# Altium schematic symbol library 7.PH XH VH KF2510连接器原理库.SchLib: 168 symbols
Pins are listed as number, name and electrical type; pins without a type are passive.

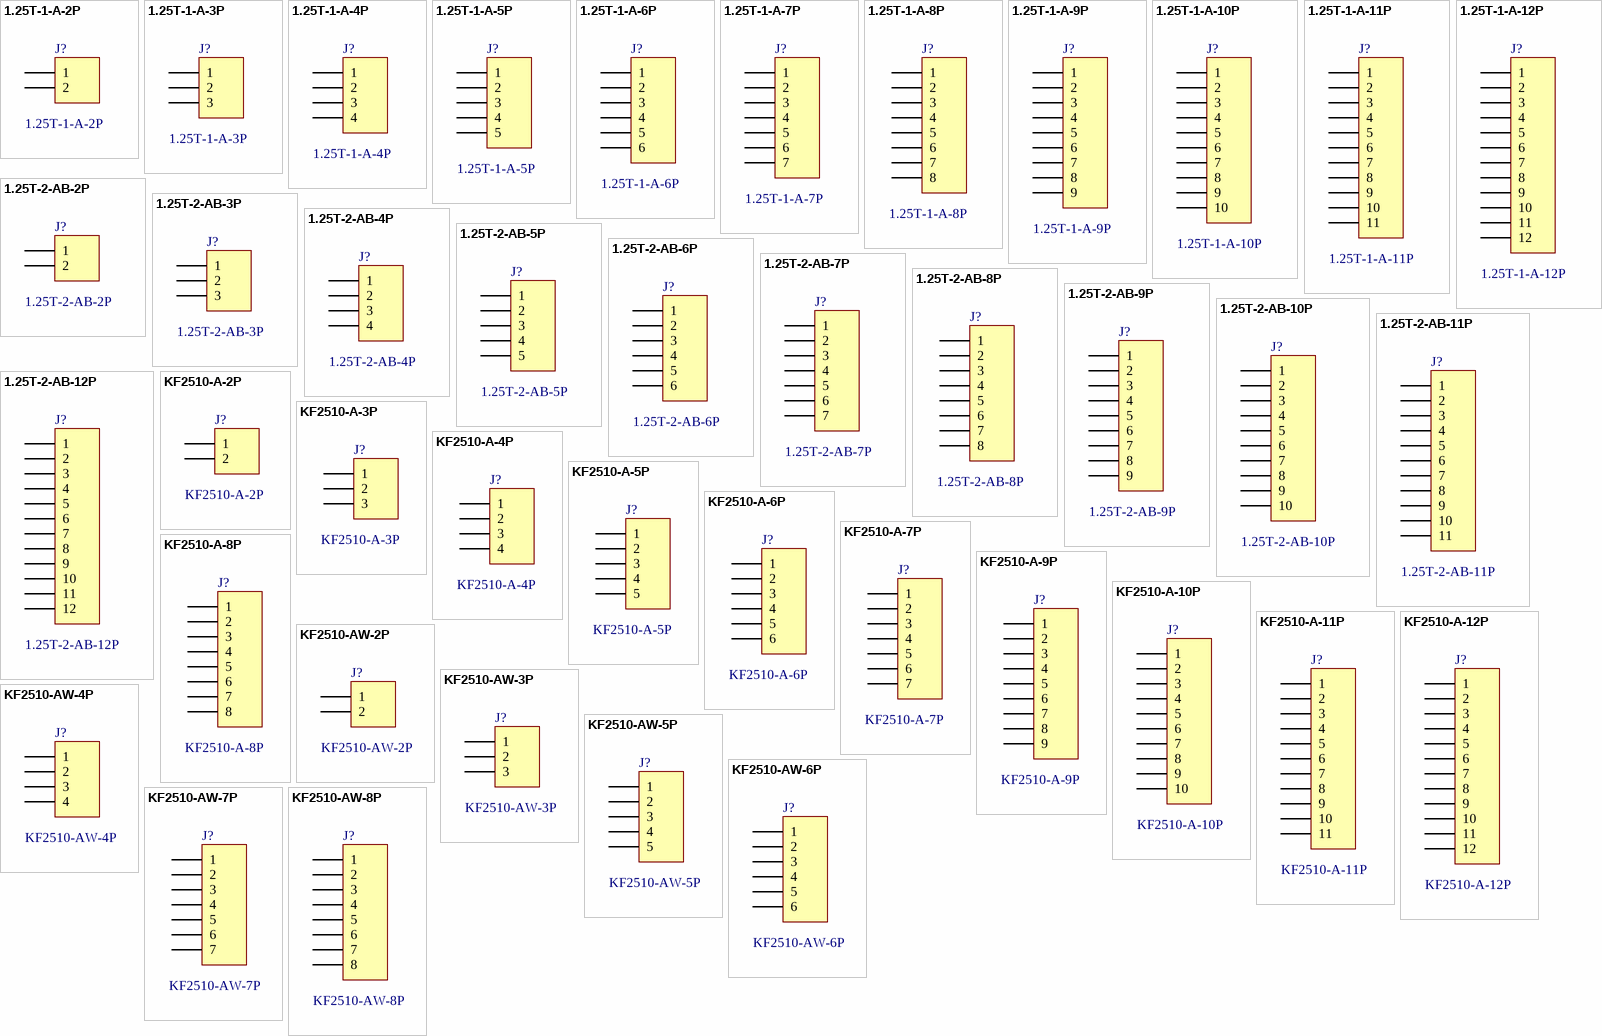
[diagram p0: symbols 1.25T-1-A-2P to KF2510-AW-8P]

## 1.25T-1-A-2P
designator J?
Header, 1.25mm,2-Pin; Value: 1.25T-1-A-2P
footprint 1.25T-1-A-2P (Footprint not found)
pins: 1, 2

## 1.25T-1-A-3P
designator J?
Header, 1.25mm,3-Pin; Value: 1.25T-1-A-3P
footprint 1.25T-1-A-3P (Footprint not found)
pins: 1, 2, 3

## 1.25T-1-A-4P
designator J?
Header, 1.25mm,4-Pin; Value: 1.25T-1-A-4P
footprint 1.25T-1-A-4P (Footprint not found)
pins: 1, 2, 3, 4

## 1.25T-1-A-5P
designator J?
Header, 1.25mm,5-Pin; Value: 1.25T-1-A-5P
footprint 1.25T-1-A-5P (Footprint not found)
pins: 1, 2, 3, 4, 5

## 1.25T-1-A-6P
designator J?
Header, 1.25mm,6-Pin; Value: 1.25T-1-A-6P
footprint 1.25T-1-A-6P (Footprint not found)
pins: 1, 2, 3, 4, 5, 6

## 1.25T-1-A-7P
designator J?
Header, 1.25mm,7-Pin; Value: 1.25T-1-A-7P
footprint 1.25T-1-A-7P (Footprint not found)
pins: 1, 2, 3, 4, 5, 6, 7

## 1.25T-1-A-8P
designator J?
Header, 1.25mm,8-Pin; Value: 1.25T-1-A-8P
footprint 1.25T-1-A-8P
pins: 1, 2, 3, 4, 5, 6, 7, 8

## 1.25T-1-A-9P
designator J?
Header, 1.25mm,9-Pin; Value: 1.25T-1-A-9P
footprint 1.25T-1-A-9P (Footprint not found)
pins: 1, 2, 3, 4, 5, 6, 7, 8, 9

## 1.25T-1-A-10P
designator J?
Header, 1.25mm,10-Pin; Value: 1.25T-1-A-10P
footprint 1.25T-1-A-10P (Footprint not found)
pins: 1, 2, 3, 4, 5, 6, 7, 8, 9, 10

## 1.25T-1-A-11P
designator J?
Header, 1.25mm,11-Pin; Value: 1.25T-1-A-11P
footprint 1.25T-1-A-11P (Footprint not found)
pins: 1, 2, 3, 4, 5, 6, 7, 8, 9, 10, 11

## 1.25T-1-A-12P
designator J?
Header, 1.25mm,12-Pin; Value: 1.25T-1-A-12P
footprint 1.25T-1-A-12P (Footprint not found)
pins: 1, 2, 3, 4, 5, 6, 7, 8, 9, 10, 11, 12

## 1.25T-2-AB-2P
designator J?
Header, 1.25mm,2-Pin; Value: 1.25T-2-AB-2P
footprint 1.25T-2-AB-2P (Footprint not found)
pins: 1, 2

## 1.25T-2-AB-3P
designator J?
Header, 1.25mm,3-Pin; Value: 1.25T-2-AB-3P
footprint 1.25T-2-AB-3P (Footprint not found)
pins: 1, 2, 3

## 1.25T-2-AB-4P
designator J?
Header, 1.25mm,4-Pin; Value: 1.25T-2-AB-4P
footprint 1.25T-2-AB-4P (Footprint not found)
pins: 1, 2, 3, 4

## 1.25T-2-AB-5P
designator J?
Header, 1.25mm,5-Pin; Value: 1.25T-2-AB-5P
footprint 1.25T-2-AB-5P (Footprint not found)
pins: 1, 2, 3, 4, 5

## 1.25T-2-AB-6P
designator J?
Header, 1.25mm,6-Pin; Value: 1.25T-2-AB-6P
footprint 1.25T-2-AB-6P (Footprint not found)
pins: 1, 2, 3, 4, 5, 6

## 1.25T-2-AB-7P
designator J?
Header, 1.25mm,7-Pin; Value: 1.25T-2-AB-7P
footprint 1.25T-2-AB-7P (Footprint not found)
pins: 1, 2, 3, 4, 5, 6, 7

## 1.25T-2-AB-8P
designator J?
Header, 1.25mm,8-Pin; Value: 1.25T-2-AB-8P
footprint 1.25T-2-AB-8P (Footprint not found)
pins: 1, 2, 3, 4, 5, 6, 7, 8

## 1.25T-2-AB-9P
designator J?
Header, 1.25mm,9-Pin; Value: 1.25T-2-AB-9P
footprint 1.25T-2-AB-9P (Footprint not found)
pins: 1, 2, 3, 4, 5, 6, 7, 8, 9

## 1.25T-2-AB-10P
designator J?
Header, 1.25mm,10-Pin; Value: 1.25T-2-AB-10P
footprint 1.25T-2-AB-10P (Footprint not found)
pins: 1, 2, 3, 4, 5, 6, 7, 8, 9, 10

## 1.25T-2-AB-11P
designator J?
Header, 1.25mm,11-Pin; Value: 1.25T-2-AB-11P
footprint 1.25T-2-AB-11P (Footprint not found)
pins: 1, 2, 3, 4, 5, 6, 7, 8, 9, 10, 11

## 1.25T-2-AB-12P
designator J?
Header, 1.25mm,12-Pin; Value: 1.25T-2-AB-12P
footprint 1.25T-2-AB-12P (Footprint not found)
pins: 1, 2, 3, 4, 5, 6, 7, 8, 9, 10, 11, 12

## KF2510-A-2P
designator J?
Header, 2.54mm,2-Pin; Value: KF2510-A-2P
footprint KF2510-A-2P
pins: 1, 2

## KF2510-A-3P
designator J?
Header, 2.54mm,3-Pin; Value: KF2510-A-3P
footprint KF2510-A-3P
pins: 1, 2, 3

## KF2510-A-4P
designator J?
Header, 2.54mm,4-Pin; Value: KF2510-A-4P
footprint KF2510-A-4P
pins: 1, 2, 3, 4

## KF2510-A-5P
designator J?
Header, 2.54mm,5-Pin; Value: KF2510-A-5P
footprint KF2510-A-5P
pins: 1, 2, 3, 4, 5

## KF2510-A-6P
designator J?
Header, 2.54mm,6-Pin; Value: KF2510-A-6P
footprint KF2510-A-6P
pins: 1, 2, 3, 4, 5, 6

## KF2510-A-7P
designator J?
Header, 2.54mm,7-Pin; Value: KF2510-A-7P
footprint KF2510-A-7P
pins: 1, 2, 3, 4, 5, 6, 7

## KF2510-A-8P
designator J?
Header, 2.54mm,8-Pin; Value: KF2510-A-8P
footprint KF2510-A-8P
pins: 1, 2, 3, 4, 5, 6, 7, 8

## KF2510-A-9P
designator J?
Header, 2.54mm,9-Pin; Value: KF2510-A-9P
footprint KF2510-A-9P
pins: 1, 2, 3, 4, 5, 6, 7, 8, 9

## KF2510-A-10P
designator J?
Header, 2.54mm,10-Pin; Value: KF2510-A-10P
footprint KF2510-A-10P
pins: 1, 2, 3, 4, 5, 6, 7, 8, 9, 10

## KF2510-A-11P
designator J?
Header, 2.54mm,11-Pin; Value: KF2510-A-11P
footprint KF2510-A-11P
pins: 1, 2, 3, 4, 5, 6, 7, 8, 9, 10, 11

## KF2510-A-12P
designator J?
Header, 2.54mm,12-Pin; Value: KF2510-A-12P
footprint KF2510-A-12P
pins: 1, 2, 3, 4, 5, 6, 7, 8, 9, 10, 11, 12

## KF2510-AW-2P
designator J?
Header, 2.54mm,2-Pin,horizontal; Value: KF2510-AW-2P
footprint KF2510-AW-2P (Footprint not found)
pins: 1, 2

## KF2510-AW-3P
designator J?
Header, 2.54mm,3-Pin,horizontal; Value: KF2510-AW-3P
footprint KF2510-AW-3P (Footprint not found)
pins: 1, 2, 3

## KF2510-AW-4P
designator J?
Header, 2.54mm,4-Pin,horizontal; Value: KF2510-AW-4P
footprint KF2510-AW-4P (Footprint not found)
pins: 1, 2, 3, 4

## KF2510-AW-5P
designator J?
Header, 2.54mm,5-Pin,horizontal; Value: KF2510-AW-5P
footprint KF2510-AW-5P (Footprint not found)
pins: 1, 2, 3, 4, 5

## KF2510-AW-6P
designator J?
Header, 2.54mm,6-Pin,horizontal; Value: KF2510-AW-6P
footprint KF2510-AW-6P (Footprint not found)
pins: 1, 2, 3, 4, 5, 6

## KF2510-AW-7P
designator J?
Header, 2.54mm,7-Pin,horizontal; Value: KF2510-AW-7P
footprint KF2510-AW-7P
pins: 1, 2, 3, 4, 5, 6, 7

## KF2510-AW-8P
designator J?
Header, 2.54mm,8-Pin,horizontal; Value: KF2510-AW-8P
footprint KF2510-AW-8P (Footprint not found)
pins: 1, 2, 3, 4, 5, 6, 7, 8

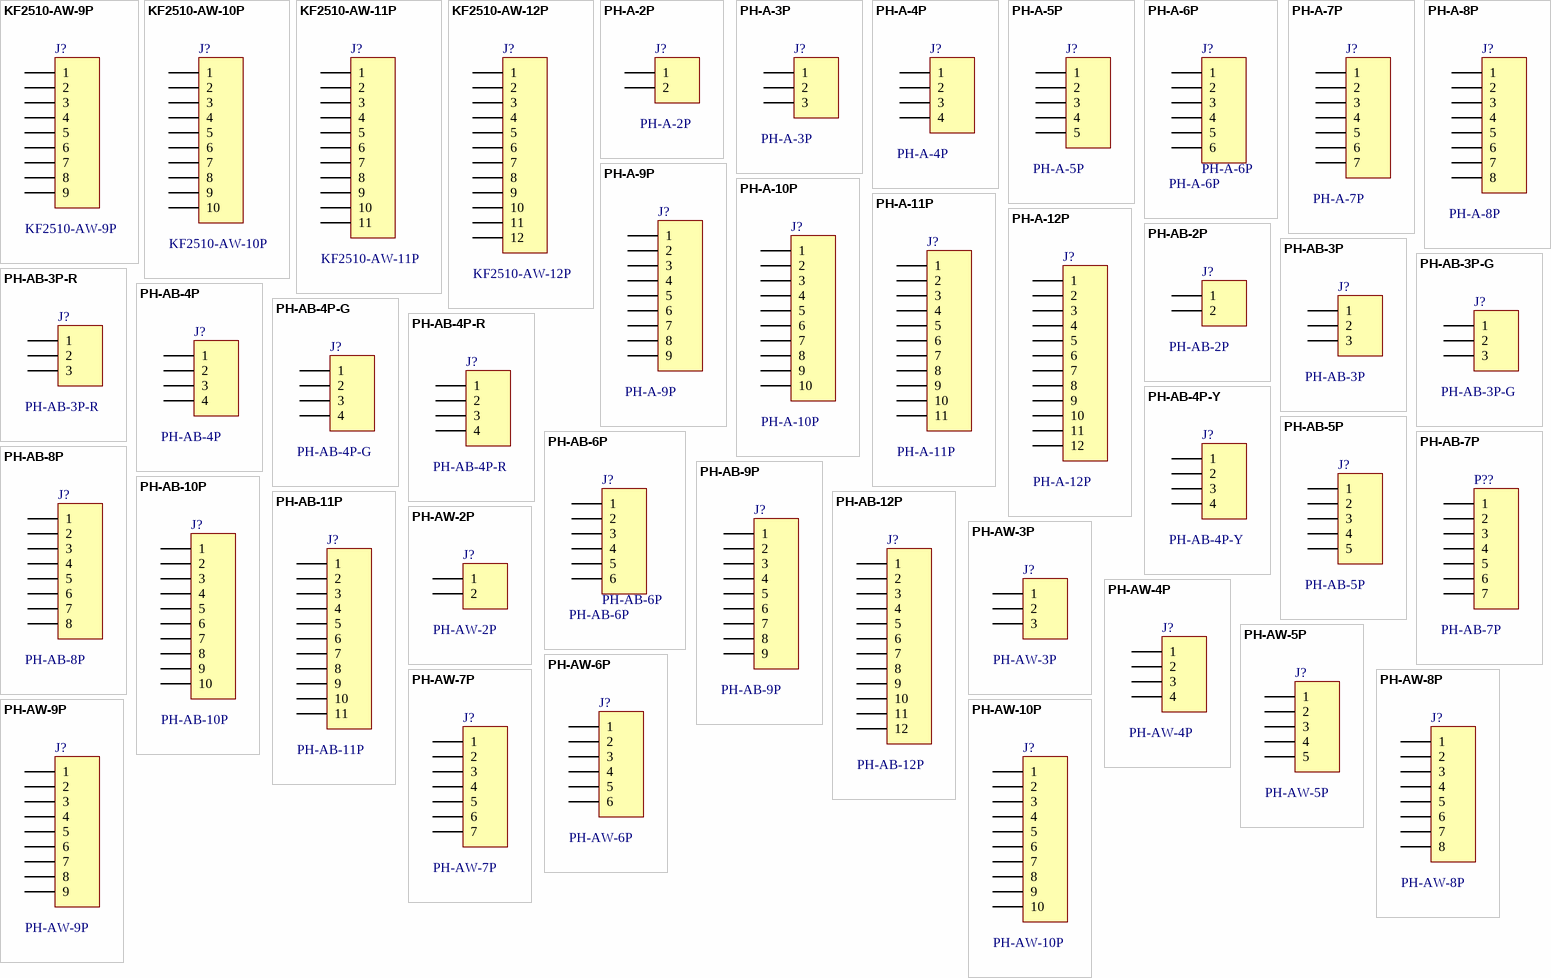
[diagram p1: symbols KF2510-AW-9P to PH-AW-10P]

## KF2510-AW-9P
designator J?
Header, 2.54mm,9-Pin,horizontal; Value: KF2510-AW-9P
footprint KF2510-AW-9P (Footprint not found)
pins: 1, 2, 3, 4, 5, 6, 7, 8, 9

## KF2510-AW-10P
designator J?
Header, 2.54mm,10-Pin,horizontal; Value: KF2510-AW-10P
footprint KF2510-AW-10P (Footprint not found)
pins: 1, 2, 3, 4, 5, 6, 7, 8, 9, 10

## KF2510-AW-11P
designator J?
Header, 2.54mm,11-Pin,horizontal; Value: KF2510-AW-11P
footprint KF2510-AW-11P (Footprint not found)
pins: 1, 2, 3, 4, 5, 6, 7, 8, 9, 10, 11

## KF2510-AW-12P
designator J?
Header, 2.54mm,12-Pin,horizontal; Value: KF2510-AW-12P
footprint KF2510-AW-12P (Footprint not found)
pins: 1, 2, 3, 4, 5, 6, 7, 8, 9, 10, 11, 12

## PH-A-2P
designator J?
Header, 2.0mm,2-Pin; Value: PH-A-2P
footprint PH-A-2P
pins: 1, 2

## PH-A-3P
designator J?
Header, 2.0mm,3-Pin; Value: PH-A-3P
footprint PH-A-3P
pins: 1, 2, 3

## PH-A-4P
designator J?
Header, 2.0mm,4-Pin; Value: PH-A-4P
footprint PH-A-4P
pins: 1, 2, 3, 4

## PH-A-5P
designator J?
Header, 2.0mm,5-Pin; Value: PH-A-5P
footprint PH-A-5P
pins: 1, 2, 3, 4, 5

## PH-A-6P
designator J?
Header, 2.0mm,6-Pin; Value: PH-A-6P
footprint PH-A-6P
pins: 1, 2, 3, 4, 5, 6

## PH-A-7P
designator J?
Header, 2.0mm,7-Pin; Value: PH-A-7P
footprint PH-A-7P
pins: 1, 2, 3, 4, 5, 6, 7

## PH-A-8P
designator J?
Header, 2.0mm,8-Pin; Value: PH-A-8P
footprint PH-A-8P
pins: 1, 2, 3, 4, 5, 6, 7, 8

## PH-A-9P
designator J?
Header, 2.0mm,9-Pin; Value: PH-A-9P
footprint PH-A-9P
pins: 1, 2, 3, 4, 5, 6, 7, 8, 9

## PH-A-10P
designator J?
Header, 2.0mm,10-Pin; Value: PH-A-10P
footprint PH-A-10P
pins: 1, 2, 3, 4, 5, 6, 7, 8, 9, 10

## PH-A-11P
designator J?
Header, 2.0mm,11-Pin; Value: PH-A-11P
footprint PH-A-11P
pins: 1, 2, 3, 4, 5, 6, 7, 8, 9, 10, 11

## PH-A-12P
designator J?
Header, 2.0mm,12-Pin; Value: PH-A-12P
footprint PH-A-12P
pins: 1, 2, 3, 4, 5, 6, 7, 8, 9, 10, 11, 12

## PH-AB-2P
designator J?
Header, 2.0mm,2-Pin,Vertical,paster; Value: PH-AB-2P
footprint PH-AB-2P
pins: 1, 2

## PH-AB-3P
designator J?
Header, 2.0mm,3-Pin,Vertical,paster; Value: PH-AB-3P
footprint PH-AB-3P
pins: 1, 2, 3

## PH-AB-3P-G
designator J?
Header, 2.0mm,3-Pin,Vertical,paster; Value: PH-AB-3P-G
footprint PH-AB-3P
pins: 1, 2, 3

## PH-AB-3P-R
designator J?
Header, 2.0mm,3-Pin,Vertical,paster; Value: PH-AB-3P-R
footprint PH-AB-3P
pins: 1, 2, 3

## PH-AB-4P
designator J?
Header, 2.0mm,4-Pin,Vertical,paster; Value: PH-AB-4P
footprint PH-AB-4P
pins: 1, 2, 3, 4

## PH-AB-4P-G
designator J?
Header, 2.0mm,4-Pin,Vertical,paster; Value: PH-AB-4P-G
footprint PH-AB-4P
pins: 1, 2, 3, 4

## PH-AB-4P-R
designator J?
Header, 2.0mm,4-Pin,Vertical,paster; Value: PH-AB-4P-R
footprint PH-AB-4P
pins: 1, 2, 3, 4

## PH-AB-4P-Y
designator J?
Header, 2.0mm,4-Pin,Vertical,paster; Value: PH-AB-4P-Y
footprint PH-AB-4P
pins: 1, 2, 3, 4

## PH-AB-5P
designator J?
Header, 2.0mm,5-Pin,Vertical,paster; Value: PH-AB-5P
footprint PH-AB-5P
pins: 1, 2, 3, 4, 5

## PH-AB-6P
designator J?
Header, 2.0mm,6-Pin,Vertical,paster; Value: PH-AB-6P
footprint PH-AB-6P
pins: 1, 2, 3, 4, 5, 6

## PH-AB-7P
designator P??
Header, 2.0mm,7-Pin,Vertical,paster; Value: PH-AB-7P
footprint PH-AB-7P
pins: 1, 2, 3, 4, 5, 6, 7

## PH-AB-8P
designator J?
Header, 2.0mm,8-Pin,Vertical,paster; Value: PH-AB-8P
footprint PH-AB-8P
pins: 1, 2, 3, 4, 5, 6, 7, 8

## PH-AB-9P
designator J?
Header, 2.0mm,9-Pin,Vertical,paster; Value: PH-AB-9P
footprint PH-AB-9P
pins: 1, 2, 3, 4, 5, 6, 7, 8, 9

## PH-AB-10P
designator J?
Header, 2.0mm,10-Pin,Vertical,paster; Value: PH-AB-10P
footprint PH-AB-10P (Footprint not found)
pins: 1, 2, 3, 4, 5, 6, 7, 8, 9, 10

## PH-AB-11P
designator J?
Header, 2.0mm,11-Pin,Vertical,paster; Value: PH-AB-11P
footprint PH-AB-11P (Footprint not found)
pins: 1, 2, 3, 4, 5, 6, 7, 8, 9, 10, 11

## PH-AB-12P
designator J?
Header, 2.0mm,12-Pin,Vertical,paster; Value: PH-AB-12P
footprint PH-AB-12P (Footprint not found)
pins: 1, 2, 3, 4, 5, 6, 7, 8, 9, 10, 11, 12

## PH-AW-2P
designator J?
Header, 2.0mm,2-Pin,horizontal; Value: PH-AW-2P
footprint PH-AW-2P (Footprint not found)
pins: 1, 2

## PH-AW-3P
designator J?
Header, 2.0mm,3-Pin,horizontal; Value: PH-AW-3P
footprint PH-AW-3P (Footprint not found)
pins: 1, 2, 3

## PH-AW-4P
designator J?
Header, 2.0mm,4-Pin,horizontal; Value: PH-AW-4P
footprint PH-AW-4P
pins: 1, 2, 3, 4

## PH-AW-5P
designator J?
Header, 2.0mm,5-Pin,horizontal; Value: PH-AW-5P
footprint PH-AW-5P (Footprint not found)
pins: 1, 2, 3, 4, 5

## PH-AW-6P
designator J?
Header, 2.0mm,6-Pin,horizontal; Value: PH-AW-6P
footprint PH-AW-6P (Footprint not found)
pins: 1, 2, 3, 4, 5, 6

## PH-AW-7P
designator J?
Header, 2.0mm,7-Pin,horizontal; Value: PH-AW-7P
footprint PH-AW-7P (Footprint not found)
pins: 1, 2, 3, 4, 5, 6, 7

## PH-AW-8P
designator J?
Header, 2.0mm,8-Pin,horizontal; Value: PH-AW-8P
footprint PH-AW-8P (Footprint not found)
pins: 1, 2, 3, 4, 5, 6, 7, 8

## PH-AW-9P
designator J?
Header, 2.0mm,9-Pin,horizontal; Value: PH-AW-9P
footprint PH-AW-9P (Footprint not found)
pins: 1, 2, 3, 4, 5, 6, 7, 8, 9

## PH-AW-10P
designator J?
Header, 2.0mm,10-Pin,horizontal; Value: PH-AW-10P
footprint PH-AW-10P (Footprint not found)
pins: 1, 2, 3, 4, 5, 6, 7, 8, 9, 10

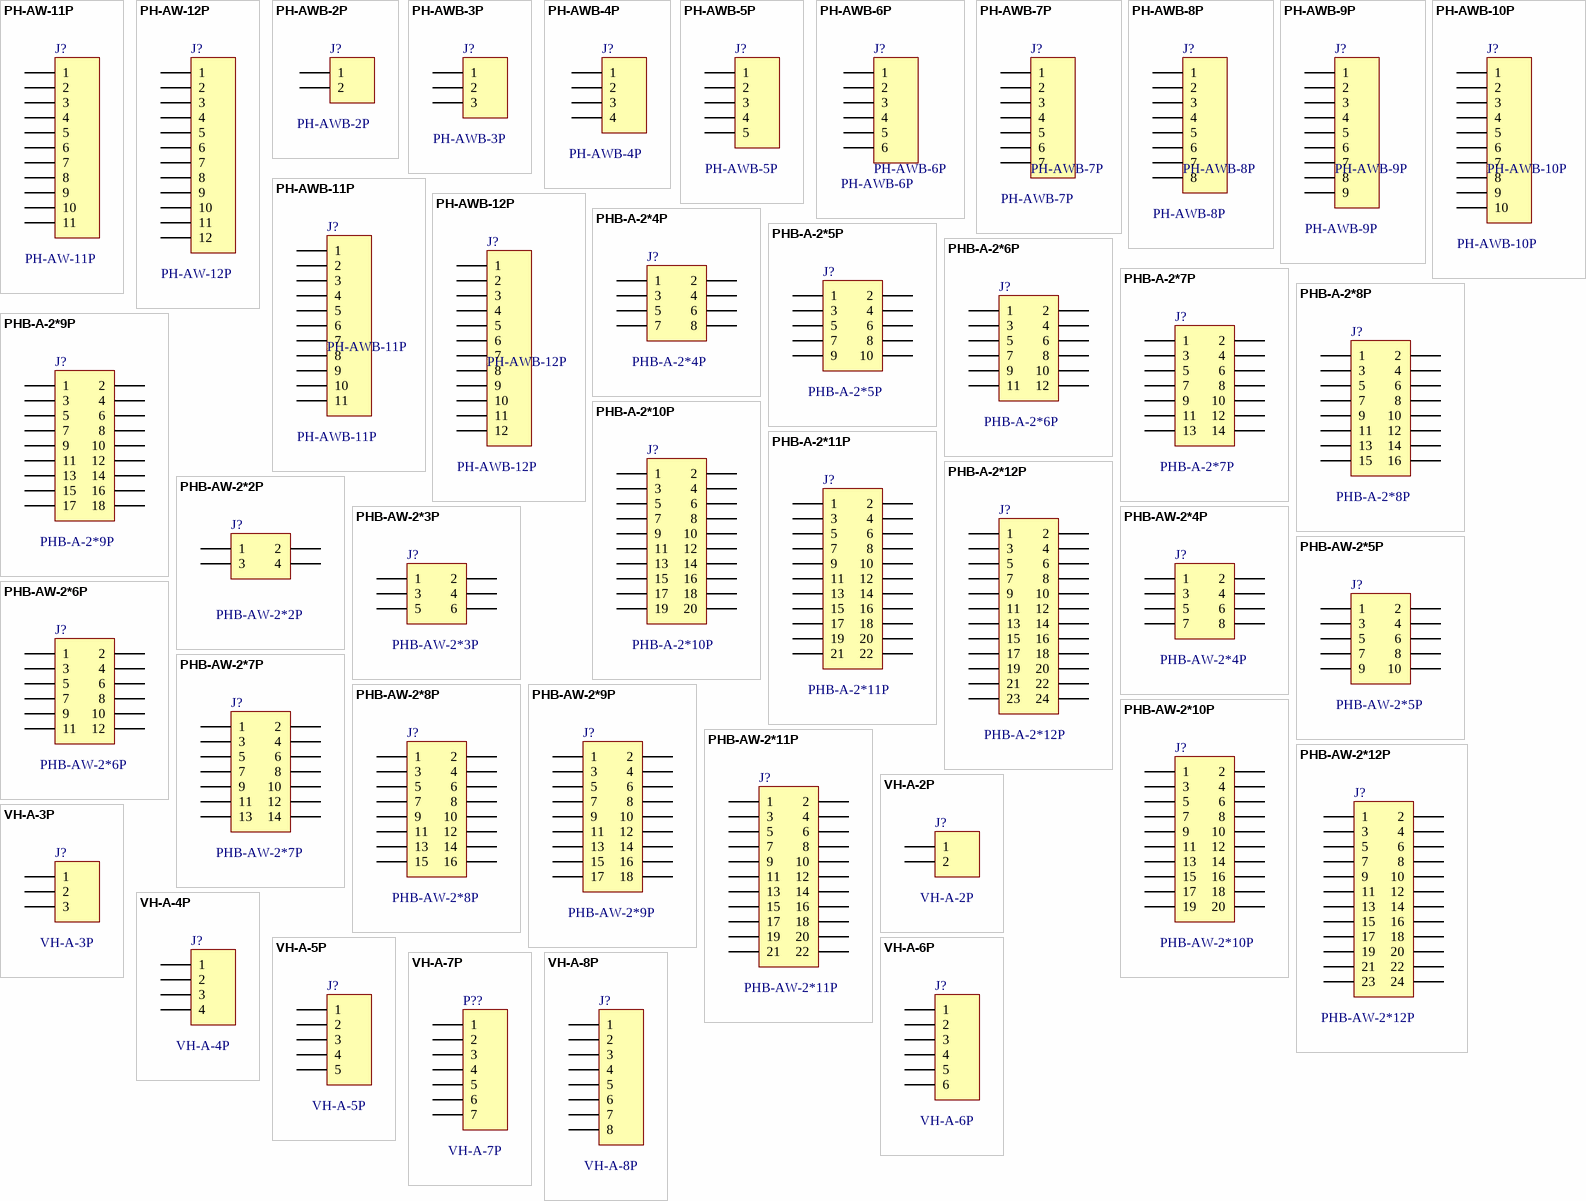
[diagram p2: symbols PH-AW-11P to VH-A-8P]

## PH-AW-11P
designator J?
Header, 2.0mm,11-Pin,horizontal; Value: PH-AW-11P
footprint PH-AW-11P (Footprint not found)
pins: 1, 2, 3, 4, 5, 6, 7, 8, 9, 10, 11

## PH-AW-12P
designator J?
Header, 2.0mm,12-Pin,horizontal; Value: PH-AW-12P
footprint PH-AW-12P (Footprint not found)
pins: 1, 2, 3, 4, 5, 6, 7, 8, 9, 10, 11, 12

## PH-AWB-2P
designator J?
Header, 2.0mm,2-Pin,horizontal,paster; Value: PH-AWB-2P
footprint PH-AWB-2P (Footprint not found)
pins: 1, 2

## PH-AWB-3P
designator J?
Header, 2.0mm,3-Pin,horizontal,paster; Value: PH-AWB-3P
footprint PH-AWB-3P (Footprint not found)
pins: 1, 2, 3

## PH-AWB-4P
designator J?
Header, 2.0mm,4-Pin,horizontal,paster; Value: PH-AWB-4P
footprint PH-AWB-4P
pins: 1, 2, 3, 4

## PH-AWB-5P
designator J?
Header, 2.0mm,5-Pin,horizontal,paster; Value: PH-AWB-5P
footprint PH-AWB-5P (Footprint not found)
pins: 1, 2, 3, 4, 5

## PH-AWB-6P
designator J?
Header, 2.0mm,6-Pin,horizontal,paster; Value: PH-AWB-6P
footprint PH-AWB-6P
pins: 1, 2, 3, 4, 5, 6

## PH-AWB-7P
designator J?
Header, 2.0mm,7-Pin,horizontal,paster; Value: PH-AWB-7P
footprint PH-AWB-7P (Footprint not found)
pins: 1, 2, 3, 4, 5, 6, 7

## PH-AWB-8P
designator J?
Header, 2.0mm,8-Pin,horizontal,paster; Value: PH-AWB-8P
footprint PH-AWB-8P (Footprint not found)
pins: 1, 2, 3, 4, 5, 6, 7, 8

## PH-AWB-9P
designator J?
Header, 2.0mm,9-Pin,horizontal,paster; Value: PH-AWB-9P
footprint PH-AWB-9P (Footprint not found)
pins: 1, 2, 3, 4, 5, 6, 7, 8, 9

## PH-AWB-10P
designator J?
Header, 2.0mm,10-Pin,horizontal,paster; Value: PH-AWB-10P
footprint PH-AWB-10P (Footprint not found)
pins: 1, 2, 3, 4, 5, 6, 7, 8, 9, 10

## PH-AWB-11P
designator J?
Header, 2.0mm,11-Pin,horizontal,paster; Value: PH-AWB-11P
footprint PH-AWB-11P (Footprint not found)
pins: 1, 2, 3, 4, 5, 6, 7, 8, 9, 10, 11

## PH-AWB-12P
designator J?
Header, 2.0mm,12-Pin,horizontal,paster; Value: PH-AWB-12P
footprint PH-AWB-12P (Footprint not found)
pins: 1, 2, 3, 4, 5, 6, 7, 8, 9, 10, 11, 12

## PHB-A-2*4P
designator J?
Header, 4-Pin, Dual row; Value: PHB-A-2*4P
footprint PHB-A-2*4P (Footprint not found)
pins: 1, 2, 3, 4, 5, 6, 7, 8

## PHB-A-2*5P
designator J?
Header, 5-Pin, Dual row; Value: PHB-A-2*5P
footprint PHB-A-2*5P (Footprint not found)
pins: 1, 2, 3, 4, 5, 6, 7, 8, 9, 10

## PHB-A-2*6P
designator J?
Header, 6-Pin, Dual row; Value: PHB-A-2*6P
footprint PHB-A-2*6P
pins: 1, 2, 3, 4, 5, 6, 7, 8, 9, 10, 11, 12

## PHB-A-2*7P
designator J?
Header, 7-Pin, Dual row; Value: PHB-A-2*7P
footprint PHB-A-2*7P (Footprint not found)
pins: 1, 2, 3, 4, 5, 6, 7, 8, 9, 10, 11, 12, 13, 14

## PHB-A-2*8P
designator J?
Header, 8-Pin, Dual row; Value: PHB-A-2*8P
footprint PHB-A-2*8P
pins: 1, 2, 3, 4, 5, 6, 7, 8, 9, 10, 11, 12, 13, 14, 15, 16

## PHB-A-2*9P
designator J?
Header, 9-Pin, Dual row; Value: PHB-A-2*9P
footprint PHB-A-2*9P (Footprint not found)
pins: 1, 2, 3, 4, 5, 6, 7, 8, 9, 10, 11, 12, 13, 14, 15, 16, 17, 18

## PHB-A-2*10P
designator J?
Header, 10-Pin, Dual row; Value: PHB-A-2*10P
footprint PHB-A-2*10P (Footprint not found)
pins: 1, 2, 3, 4, 5, 6, 7, 8, 9, 10, 11, 12, 13, 14, 15, 16, 17, 18, 19, 20

## PHB-A-2*11P
designator J?
Header, 11-Pin, Dual row; Value: PHB-A-2*11P
footprint PHB-A-2*11P (Footprint not found)
pins: 1, 2, 3, 4, 5, 6, 7, 8, 9, 10, 11, 12, 13, 14, 15, 16, 17, 18, 19, 20, 21, 22

## PHB-A-2*12P
designator J?
Header, 12-Pin, Dual row; Value: PHB-A-2*12P
footprint PHB-A-2*12P (Footprint not found)
pins: 1, 2, 3, 4, 5, 6, 7, 8, 9, 10, 11, 12, 13, 14, 15, 16, 17, 18, 19, 20, 21, 22, 23, 24

## PHB-AW-2*2P
designator J?
Header, 2-Pin, Dual row,horizontal; Value: PHB-AW-2*2P
footprint PHB-AW-2*2P (Footprint not found)
pins: 1, 2, 3, 4

## PHB-AW-2*3P
designator J?
Header, 3-Pin, Dual row,horizontal; Value: PHB-AW-2*3P
footprint PHB-AW-2*3P (Footprint not found)
pins: 1, 2, 3, 4, 5, 6

## PHB-AW-2*4P
designator J?
Header, 4-Pin, Dual row,horizontal; Value: PHB-AW-2*4P
footprint PHB-AW-2*4P (Footprint not found)
pins: 1, 2, 3, 4, 5, 6, 7, 8

## PHB-AW-2*5P
designator J?
Header, 5-Pin, Dual row,horizontal; Value: PHB-AW-2*5P
footprint PHB-AW-2*5P (Footprint not found)
pins: 1, 2, 3, 4, 5, 6, 7, 8, 9, 10

## PHB-AW-2*6P
designator J?
Header, 6-Pin, Dual row,horizontal; Value: PHB-AW-2*6P
footprint PHB-AW-2*6P (Footprint not found)
pins: 1, 2, 3, 4, 5, 6, 7, 8, 9, 10, 11, 12

## PHB-AW-2*7P
designator J?
Header, 7-Pin, Dual row,horizontal; Value: PHB-AW-2*7P
footprint PHB-AW-2*7P (Footprint not found)
pins: 1, 2, 3, 4, 5, 6, 7, 8, 9, 10, 11, 12, 13, 14

## PHB-AW-2*8P
designator J?
Header, 8-Pin, Dual row,horizontal; Value: PHB-AW-2*8P
footprint PHB-AW-2*8P
pins: 1, 2, 3, 4, 5, 6, 7, 8, 9, 10, 11, 12, 13, 14, 15, 16

## PHB-AW-2*9P
designator J?
Header, 9-Pin, Dual row,horizontal; Value: PHB-AW-2*9P
footprint PHB-AW-2*9P (Footprint not found)
pins: 1, 2, 3, 4, 5, 6, 7, 8, 9, 10, 11, 12, 13, 14, 15, 16, 17, 18

## PHB-AW-2*10P
designator J?
Header, 10-Pin, Dual row,horizontal; Value: PHB-AW-2*10P
footprint PHB-AW-2*10P (Footprint not found)
pins: 1, 2, 3, 4, 5, 6, 7, 8, 9, 10, 11, 12, 13, 14, 15, 16, 17, 18, 19, 20

## PHB-AW-2*11P
designator J?
Header, 11-Pin, Dual row,horizontal; Value: PHB-AW-2*11P
footprint PHB-AW-2*11P (Footprint not found)
pins: 1, 2, 3, 4, 5, 6, 7, 8, 9, 10, 11, 12, 13, 14, 15, 16, 17, 18, 19, 20, 21, 22

## PHB-AW-2*12P
designator J?
Header, 12-Pin, Dual row,horizontal; Value: PHB-AW-2*12P
footprint PHB-AW-2*12P
pins: 1, 2, 3, 4, 5, 6, 7, 8, 9, 10, 11, 12, 13, 14, 15, 16, 17, 18, 19, 20, 21, 22, 23, 24

## VH-A-2P
designator J?
Header, 3.96mm,2-Pin; Value: VH-A-2P
footprint VH-A-2P
pins: 1, 2

## VH-A-3P
designator J?
Header, 3.96mm,3-Pin; Value: VH-A-3P
footprint VH-A-3P
pins: 1, 2, 3

## VH-A-4P
designator J?
Header, 3.96mm,4-Pin; Value: VH-A-4P
footprint VH-A-4P
pins: 1, 2, 3, 4

## VH-A-5P
designator J?
Header, 3.96mm,5-Pin; Value: VH-A-5P
footprint VH-A-5P
pins: 1, 2, 3, 4, 5

## VH-A-6P
designator J?
Header, 3.96mm,6-Pin; Value: VH-A-6P
footprint VH-A-6P
pins: 1, 2, 3, 4, 5, 6

## VH-A-7P
designator P??
Header, 3.96mm,7-Pin; Value: VH-A-7P
footprint VH-A-7P
pins: 1, 2, 3, 4, 5, 6, 7

## VH-A-8P
designator J?
Header, 3.96mm,8-Pin; Value: VH-A-8P
footprint VH-A-8P
pins: 1, 2, 3, 4, 5, 6, 7, 8

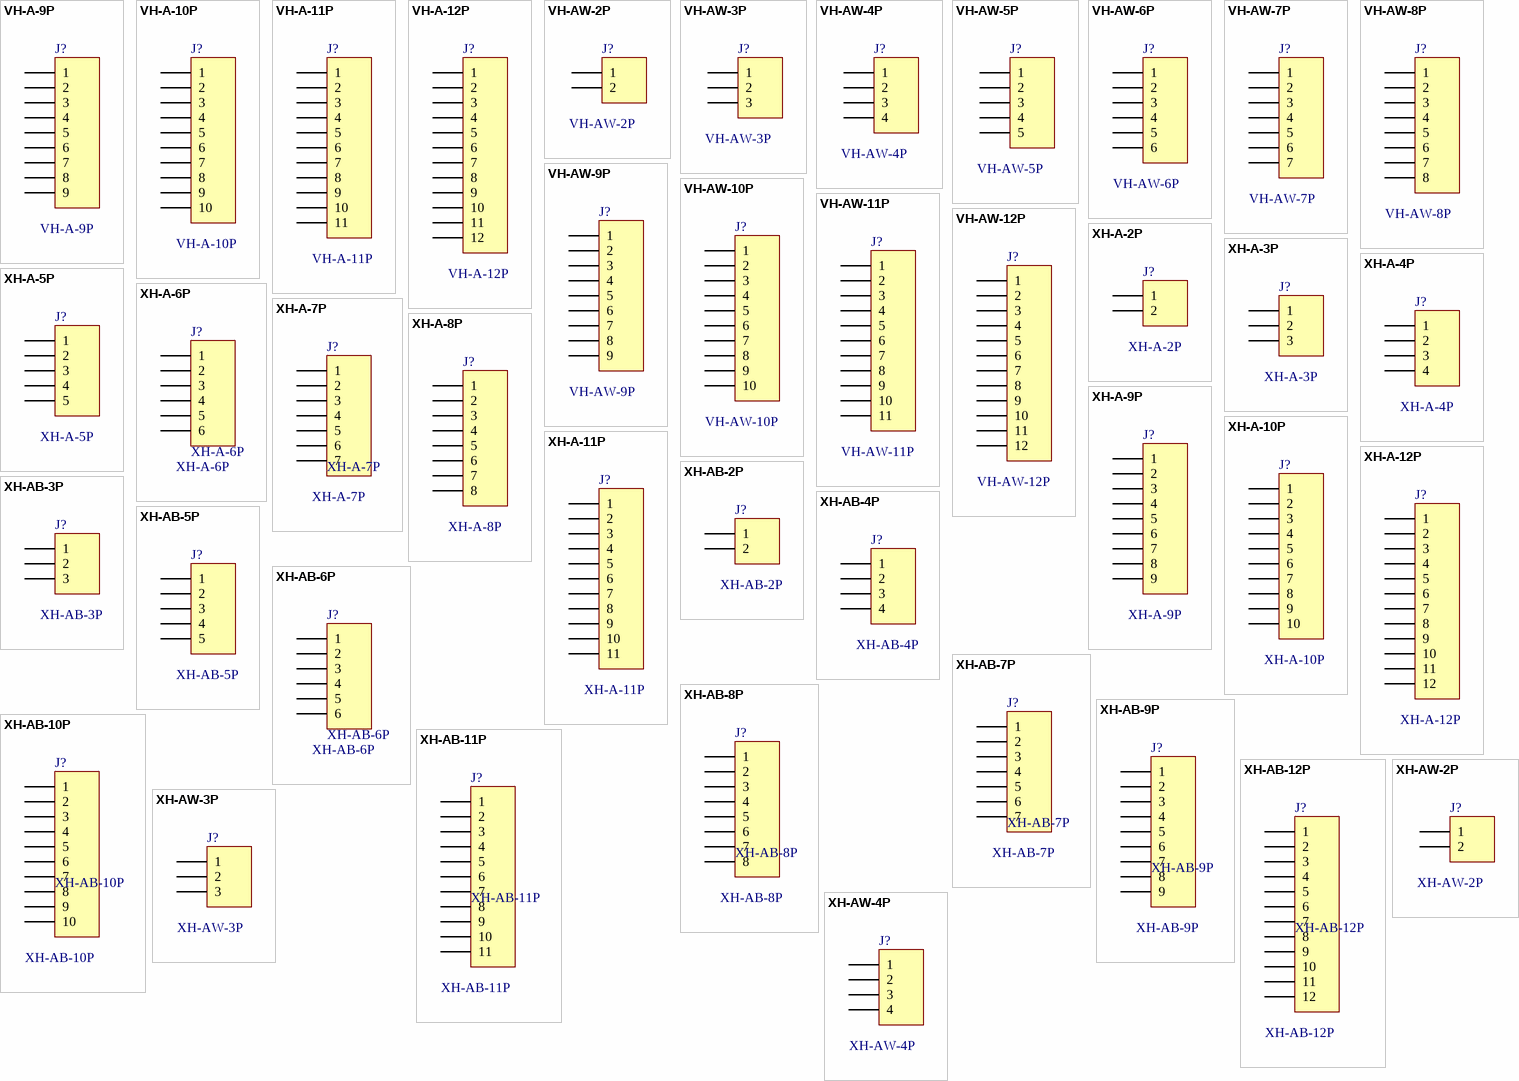
[diagram p3: symbols VH-A-9P to XH-AW-4P]

## VH-A-9P
designator J?
Header, 3.96mm,9-Pin; Value: VH-A-9P
footprint VH-A-9P (Footprint not found)
pins: 1, 2, 3, 4, 5, 6, 7, 8, 9

## VH-A-10P
designator J?
Header, 3.96mm,10-Pin; Value: VH-A-10P
footprint VH-A-10P (Footprint not found)
pins: 1, 2, 3, 4, 5, 6, 7, 8, 9, 10

## VH-A-11P
designator J?
Header, 3.96mm,11-Pin; Value: VH-A-11P
footprint VH-A-11P (Footprint not found)
pins: 1, 2, 3, 4, 5, 6, 7, 8, 9, 10, 11

## VH-A-12P
designator J?
Header, 3.96mm,12-Pin; Value: VH-A-12P
footprint VH-A-12P (Footprint not found)
pins: 1, 2, 3, 4, 5, 6, 7, 8, 9, 10, 11, 12

## VH-AW-2P
designator J?
Header, 3.96mm,2-Pin,horizontal; Value: VH-AW-2P
footprint VH-AW-2P
pins: 1, 2

## VH-AW-3P
designator J?
Header, 3.96mm,3-Pin,horizontal; Value: VH-AW-3P
footprint VH-AW-3P
pins: 1, 2, 3

## VH-AW-4P
designator J?
Header, 3.96mm,4-Pin,horizontal; Value: VH-AW-4P
footprint VH-AW-4P
pins: 1, 2, 3, 4

## VH-AW-5P
designator J?
Header, 3.96mm,5-Pin,horizontal; Value: VH-AW-5P
footprint VH-AW-5P
pins: 1, 2, 3, 4, 5

## VH-AW-6P
designator J?
Header, 3.96mm,6-Pin,horizontal; Value: VH-AW-6P
footprint VH-AW-6P (Footprint not found)
pins: 1, 2, 3, 4, 5, 6

## VH-AW-7P
designator J?
Header, 3.96mm,7-Pin,horizontal; Value: VH-AW-7P
footprint VH-AW-7P (Footprint not found)
pins: 1, 2, 3, 4, 5, 6, 7

## VH-AW-8P
designator J?
Header, 3.96mm,8-Pin,horizontal; Value: VH-AW-8P
footprint VH-AW-8P (Footprint not found)
pins: 1, 2, 3, 4, 5, 6, 7, 8

## VH-AW-9P
designator J?
Header, 3.96mm,9-Pin,horizontal; Value: VH-AW-9P
footprint VH-AW-9P (Footprint not found)
pins: 1, 2, 3, 4, 5, 6, 7, 8, 9

## VH-AW-10P
designator J?
Header, 3.96mm,10-Pin,horizontal; Value: VH-AW-10P
footprint VH-AW-10P (Footprint not found)
pins: 1, 2, 3, 4, 5, 6, 7, 8, 9, 10

## VH-AW-11P
designator J?
Header, 3.96mm,11-Pin,horizontal; Value: VH-AW-11P
footprint VH-AW-11P (Footprint not found)
pins: 1, 2, 3, 4, 5, 6, 7, 8, 9, 10, 11

## VH-AW-12P
designator J?
Header, 3.96mm,12-Pin,horizontal; Value: VH-AW-12P
footprint VH-AW-12P (Footprint not found)
pins: 1, 2, 3, 4, 5, 6, 7, 8, 9, 10, 11, 12

## XH-A-2P
designator J?
Header, 2.5mm,2-Pin; Value: XH-A-2P
footprint XH-A-2P
pins: 1, 2

## XH-A-3P
designator J?
Header, 2.5mm,3-Pin; Value: XH-A-3P
footprint XH-A-3P
pins: 1, 2, 3

## XH-A-4P
designator J?
Header, 2.5mm,4-Pin; Value: XH-A-4P
footprint XH-A-4P
pins: 1, 2, 3, 4

## XH-A-5P
designator J?
Header, 2.5mm,5-Pin; Value: XH-A-5P
footprint XH-A-5P
pins: 1, 2, 3, 4, 5

## XH-A-6P
designator J?
Header, 2.5mm,6-Pin; Value: XH-A-6P
footprint XH-A-6P
pins: 1, 2, 3, 4, 5, 6

## XH-A-7P
designator J?
Header, 2.5mm,7-Pin; Value: XH-A-7P
footprint XH-A-7P (Footprint not found)
pins: 1, 2, 3, 4, 5, 6, 7

## XH-A-8P
designator J?
Header, 2.5mm,8-Pin; Value: XH-A-8P
footprint XH-A-8P
pins: 1, 2, 3, 4, 5, 6, 7, 8

## XH-A-9P
designator J?
Header, 2.5mm,9-Pin; Value: XH-A-9P
footprint XH-A-9P
pins: 1, 2, 3, 4, 5, 6, 7, 8, 9

## XH-A-10P
designator J?
Header, 2.5mm,10-Pin; Value: XH-A-10P
footprint XH-A-10P
pins: 1, 2, 3, 4, 5, 6, 7, 8, 9, 10

## XH-A-11P
designator J?
Header, 2.5mm,11-Pin; Value: XH-A-11P
footprint XH-A-11P
pins: 1, 2, 3, 4, 5, 6, 7, 8, 9, 10, 11

## XH-A-12P
designator J?
Header, 2.5mm,12-Pin; Value: XH-A-12P
footprint XH-A-12P
pins: 1, 2, 3, 4, 5, 6, 7, 8, 9, 10, 11, 12

## XH-AB-2P
designator J?
Header, 2.5mm,2-Pin,Vertical,paster; Value: XH-AB-2P
footprint XH-AB-2P
pins: 1, 2

## XH-AB-3P
designator J?
Header, 2.5mm,3-Pin,Vertical,paster; Value: XH-AB-3P
footprint XH-AB-3P
pins: 1, 2, 3

## XH-AB-4P
designator J?
Header, 2.5mm,4-Pin,Vertical,paster; Value: XH-AB-4P
footprint XH-AB-4P
pins: 1, 2, 3, 4

## XH-AB-5P
designator J?
Header, 2.5mm,5-Pin,Vertical,paster; Value: XH-AB-5P
footprint XH-AB-5P
pins: 1, 2, 3, 4, 5

## XH-AB-6P
designator J?
Header, 2.5mm,6-Pin,Vertical,paster; Value: XH-AB-6P
footprint XH-AB-6P
pins: 1, 2, 3, 4, 5, 6

## XH-AB-7P
designator J?
Header, 2.5mm,7-Pin,Vertical,paster; Value: XH-AB-7P
footprint XH-AB-7P (Footprint not found)
pins: 1, 2, 3, 4, 5, 6, 7

## XH-AB-8P
designator J?
Header, 2.5mm,8-Pin,Vertical,paster; Value: XH-AB-8P
footprint XH-AB-8P (Footprint not found)
pins: 1, 2, 3, 4, 5, 6, 7, 8

## XH-AB-9P
designator J?
Header, 2.5mm,9-Pin,Vertical,paster; Value: XH-AB-9P
footprint XH-AB-9P (Footprint not found)
pins: 1, 2, 3, 4, 5, 6, 7, 8, 9

## XH-AB-10P
designator J?
Header, 2.5mm,10-Pin,Vertical,paster; Value: XH-AB-10P
footprint XH-AB-10P (Footprint not found)
pins: 1, 2, 3, 4, 5, 6, 7, 8, 9, 10

## XH-AB-11P
designator J?
Header, 2.5mm,11-Pin,Vertical,paster; Value: XH-AB-11P
footprint XH-AB-11P (Footprint not found)
pins: 1, 2, 3, 4, 5, 6, 7, 8, 9, 10, 11

## XH-AB-12P
designator J?
Header, 2.5mm,12-Pin,Vertical,paster; Value: XH-AB-12P
footprint XH-AB-12P
pins: 1, 2, 3, 4, 5, 6, 7, 8, 9, 10, 11, 12

## XH-AW-2P
designator J?
Header, 2.5mm,2-Pin,horizontal; Value: XH-AW-2P
footprint XH-AW-2P
pins: 1, 2

## XH-AW-3P
designator J?
Header, 2.5mm,3-Pin,horizontal; Value: XH-AW-3P
footprint XH-AW-3P (Footprint not found)
pins: 1, 2, 3

## XH-AW-4P
designator J?
Header, 2.5mm,4-Pin,horizontal; Value: XH-AW-4P
footprint XH-AW-4P
pins: 1, 2, 3, 4

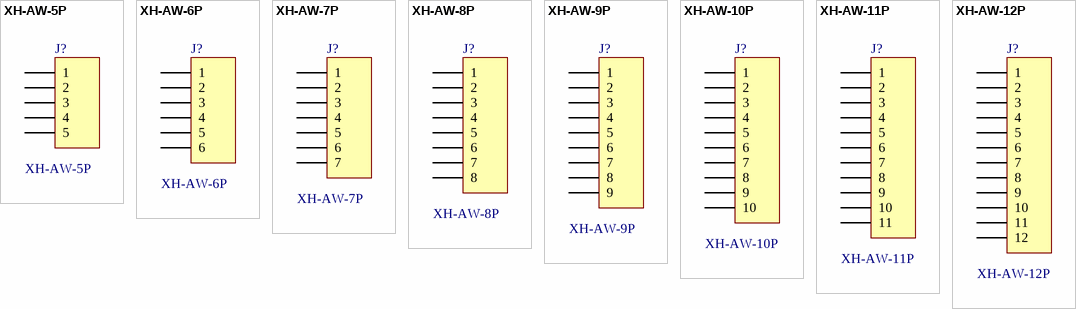
[diagram p4: symbols XH-AW-5P to XH-AW-12P]

## XH-AW-5P
designator J?
Header, 2.5mm,5-Pin,horizontal; Value: XH-AW-5P
footprint XH-AW-5P (Footprint not found)
pins: 1, 2, 3, 4, 5

## XH-AW-6P
designator J?
Header, 2.5mm,6-Pin,horizontal; Value: XH-AW-6P
footprint XH-AW-6P (Footprint not found)
pins: 1, 2, 3, 4, 5, 6

## XH-AW-7P
designator J?
Header, 2.5mm,7-Pin,horizontal; Value: XH-AW-7P
footprint XH-AW-7P (Footprint not found)
pins: 1, 2, 3, 4, 5, 6, 7

## XH-AW-8P
designator J?
Header, 2.5mm,8-Pin,horizontal; Value: XH-AW-8P
footprint XH-AW-8P (Footprint not found)
pins: 1, 2, 3, 4, 5, 6, 7, 8

## XH-AW-9P
designator J?
Header, 2.5mm,9-Pin,horizontal; Value: XH-AW-9P
footprint XH-AW-9P (Footprint not found)
pins: 1, 2, 3, 4, 5, 6, 7, 8, 9

## XH-AW-10P
designator J?
Header, 2.5mm,10-Pin,horizontal; Value: XH-AW-10P
footprint XH-AW-10P (Footprint not found)
pins: 1, 2, 3, 4, 5, 6, 7, 8, 9, 10

## XH-AW-11P
designator J?
Header, 2.5mm,11-Pin,horizontal; Value: XH-AW-11P
footprint XH-AW-11P
pins: 1, 2, 3, 4, 5, 6, 7, 8, 9, 10, 11

## XH-AW-12P
designator J?
Header, 2.5mm,12-Pin,horizontal; Value: XH-AW-12P
footprint XH-AW-12P (Footprint not found)
pins: 1, 2, 3, 4, 5, 6, 7, 8, 9, 10, 11, 12